# Altium schematic symbol library BUK98150-55A.SchLib: 1 symbol
Pins are listed as number, name and electrical type; pins without a type are passive.

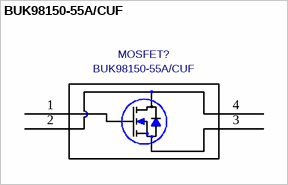
[diagram p0: symbol BUK98150-55A/CUF]

## BUK98150-55A/CUF
designator MOSFET?
Mfr_Name: Nexperia; C: Copyright (C) 2018 Accelerated Designs. All rights reserved; Value: BUK98150-55A/CUF; Copyright: Copyright (C) 2023 Ultra Librarian. All rights reserved.; Manufacturer_Part_Number: BUK98150-55A/CUF; Digi-Key_Part_Number_1: 1727-2224-2-ND; Digi-Key_Part_Number_2: 1727-2224-1-ND; Digi-Key_Part_Number_3: 1727-2224-6-ND
footprint SC-73_SOT223_NEX
pins: 1, 2, 3, 4